# EAGLE library part FM25640B (library msp430_board)
Custom RAM
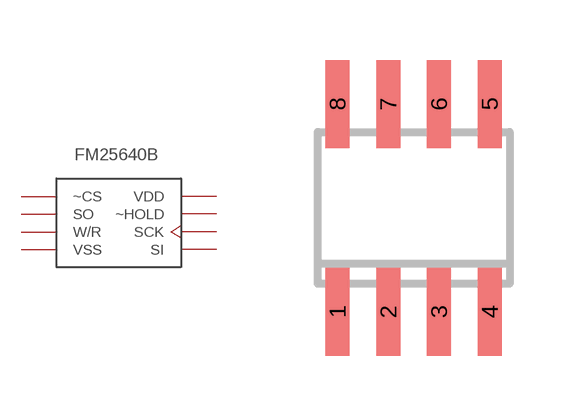
[diagram p1: symbol with the pads of SO08; footprint SO08]

Designator prefix IC

## FM25640BSO8  [SO08]
1  ~CS
2  SO
3  W/R
4  VSS
5  SI
6  SCK  oc
7  ~HOLD
8  VDD

## Footprint SO08 (pad centres in mm)
SMALL OUTLINE INTEGRATED CIRCUIT body 3.9 mm/JEDEC MS-012AA
smd 0.6 x 2.2: 1 -1.905,-2.6; 2 -0.635,-2.6; 3 0.635,-2.6; 4 1.905,-2.6; 5 1.905,2.6; 6 0.635,2.6; 7 -0.635,2.6; 8 -1.905,2.6